# Altium integrated library HLK-PM01.IntLib: 1 symbol
Pins are listed as number, name and electrical type; pins without a type are passive.

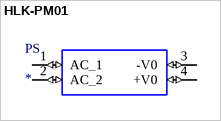
[diagram p0: symbol HLK-PM01]

## HLK-PM01
designator PS
<b>Ultra-compact power module</b><p> Source: <a href="https://datasheet.lcsc.com/szlcsc/1906201102_HI-LINK-HLK-PM03_C209904.pdf"> Datasheet </a>; MP: hlk-pm01; Package: Package Analog Devices; MF: Hi-link; Availability: Unavailable; Value: *; Price: None; SnapEDA_Link: https://www.snapeda.com/parts/hlk-pm01/Hi-link/view-part/2875605/?ref=snap
footprint HLKPM01
pins: 1 AC_1 (io), 2 AC_2 (io), 3 -V0 (io), 4 +V0 (io)